# Altium footprint library MOSH.PcbLib: 6 footprints
Each footprint in its own frame and in the unit in brackets; x right, y up, seen from the top. Pads: shape width x height; smd on the part's side, far side on the other; paste and mask are expansions set on the pad; w line width, h text height; cw(c..) or ccw(c..) is an arc to the next point about the centre after c.
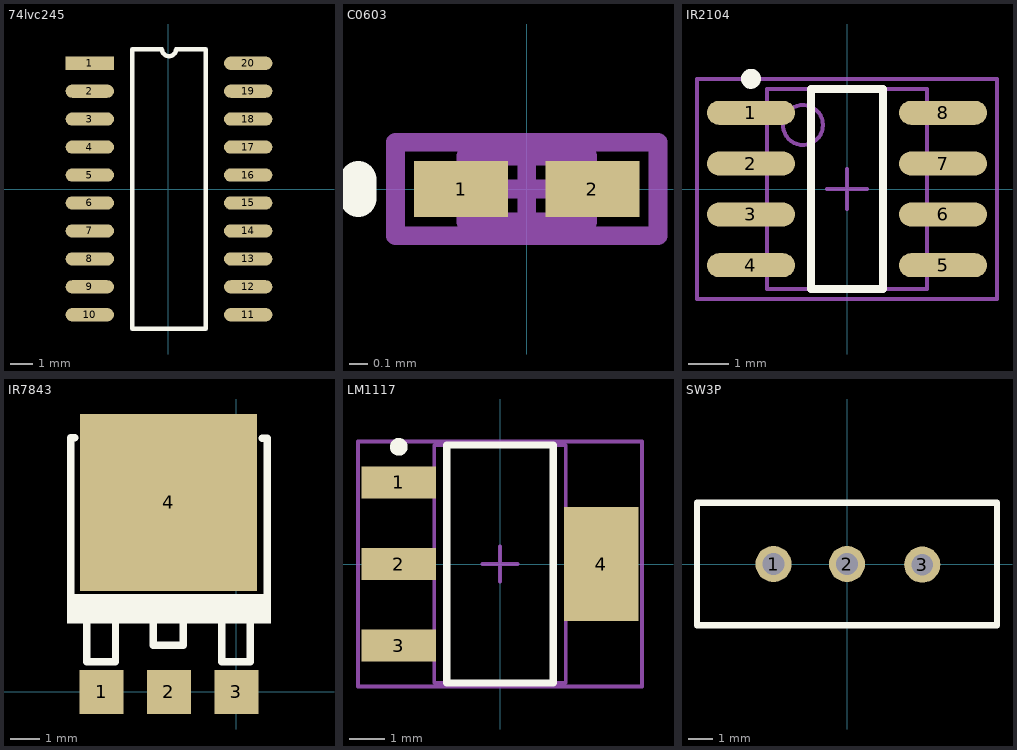
[diagram p0: the footprints below, top view; thin cyan lines are the x and y axes]

## 74lvc245 [mm]
pads (20):
  rect 2.2x0.6 smd: 1(-3.556,5.715)
  oval 2.2x0.6 smd: 2(-3.556,4.445) 3(-3.556,3.175) 4(-3.556,1.905) 5(-3.556,0.635) 6(-3.556,-0.635) 7(-3.556,-1.905) 8(-3.556,-3.175) 9(-3.556,-4.445) 10(-3.556,-5.715) 11(3.644,-5.715) 12(3.644,-4.445) 13(3.644,-3.175) 14(3.644,-1.905) 15(3.644,-0.635) 16(3.644,0.635) 17(3.644,1.905) 18(3.644,3.175) 19(3.644,4.445) 20(3.644,5.715)
Top Overlay:
  lines w0.2: -1.621,-6.35 1.709,-6.35 1.709,6.35 0.362,6.35 cw(c0.044,6.35) -0.273,6.35 -1.621,6.35 -1.621,-6.35
3D body: height 2, standoff 0, extent -4.05,-6.35 4.05,6.35

## C0603 [mm]
pads (2):
  rect 0.5x0.3 smd: 1(-0.35,0) 2(0.35,0)
Top Overlay:
  lines w0.2: -0.9,-0.05 -0.9,0.05
Mechanical 13:
  lines w0.1: -0.325,-0.175 -0.325,0.175 0.325,0.175 0.325,-0.175 -0.325,-0.175
Mechanical 15:
  lines w0.1: -0.175,0 0.175,0 ; 0,-0.175 0,0.175 ; -0.7,-0.25 -0.7,0.25 0.7,0.25 0.7,-0.25 -0.7,-0.25
3D body: height 0.28, standoff -0.02, extent -0.3,-0.127 0.3,0.173

## IR2104 [mm]
pads (8):
  oval 2.2x0.6 smd: 1(-2.4,1.905) 2(-2.4,0.635) 3(-2.4,-0.635) 4(-2.4,-1.905) 5(2.4,-1.905) 6(2.4,-0.635) 7(2.4,0.635) 8(2.4,1.905)
Top Overlay:
  circle w0.25: c-2.4,2.755 r0.125
  lines w0.2: -0.9,-2.5 0.9,-2.5 0.9,2.5 -0.9,2.5 -0.9,-2.5
Mechanical 13:
  circle w0.1: c-1.1,1.6 r0.5
  lines w0.1: -2,-2.5 2,-2.5 2,2.5 -2,2.5 -2,-2.5
Mechanical 15:
  lines w0.1: -0.5,0 0.5,0 ; 0,-0.5 0,0.5 ; -3.75,-2.75 3.75,-2.75 3.75,2.75 -3.75,2.75 -3.75,-2.75
3D body: height 1.6, standoff 0, extent -3.021,-2.51 3.021,2.51

## IR7843 [mm]
pads (4):
  rect 1.5x1.5 smd: 1(-4.572,0) 2(-2.286,0) 3(0,0)
  rect 6x6 smd: 4(-2.3,6.425)
Top Overlay:
  rectangle: -5.748,2.324 1.177,3.324
  lines w0.254: -5.625,3.15 -5.625,8.625 ; -5.6,8.625 -5.475,8.625 ; -5.075,2.275 -5.075,1.025 -4.1,1.025 -4.1,2.3 ; -2.825,2.275 -2.825,1.575 -1.8,1.575 -1.8,2.375 ; -0.5,2.275 -0.5,1.025 0.475,1.025 ; 0.475,2.3 0.475,1.025 ; 0.875,8.6 1.025,8.6 ; 1.05,3.175 1.05,8.6 ; 0.475,1.025 0.475,1.025
3D body: height 2.37, standoff -0.03, extent -5.653,-0.637 1.081,9.463

## LM1117 [mm]
pads (4):
  rect 2.1x0.9 smd: 1(-2.85,2.3) 2(-2.85,0) 3(-2.85,-2.3)
  rect 2.1x3.2 smd: 4(2.85,0)
Top Overlay:
  circle w0.25: c-2.85,3.3 r0.125
  lines w0.2: -1.5,-3.35 -1.5,3.35 1.5,3.35 1.5,-3.35 -1.5,-3.35
Mechanical 13:
  lines w0.1: -1.85,-3.35 -1.85,3.35 1.85,3.35 1.85,-3.35 -1.85,-3.35
Mechanical 15:
  lines w0.1: -0.5,0 0.5,0 ; 0,-0.5 0,0.5 ; -4,-3.45 -4,3.45 4,3.45 4,-3.45 -4,-3.45
3D body: height 1.65, standoff 0, extent -3.5,-3.25 3.5,3.25

## SW3P [mm]
pads (3):
  round 1.5 hole 0.9: 1(-3.048,0) 2(0,0) 3(3.124,-0.025)
Top Overlay:
  lines w0.254: -6.223,-2.54 -6.223,2.54 6.223,2.54 6.223,-2.54 -6.223,-2.54
3D body: height 9.65, standoff -2.6, extent -6.888,-3.048 7.112,3.152